# Altium schematic symbol library HEADER_B.SchLib: 1 symbol
Pins are listed as number, name and electrical type; pins without a type are passive.

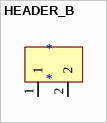
[diagram p0: symbol HEADER_B]

## HEADER_B
designator *
footprint HEADER_B
pins: 1, 2